# Altium schematic symbol library SOARSchematics.SchLib: 87 symbols (part 2 of 2)
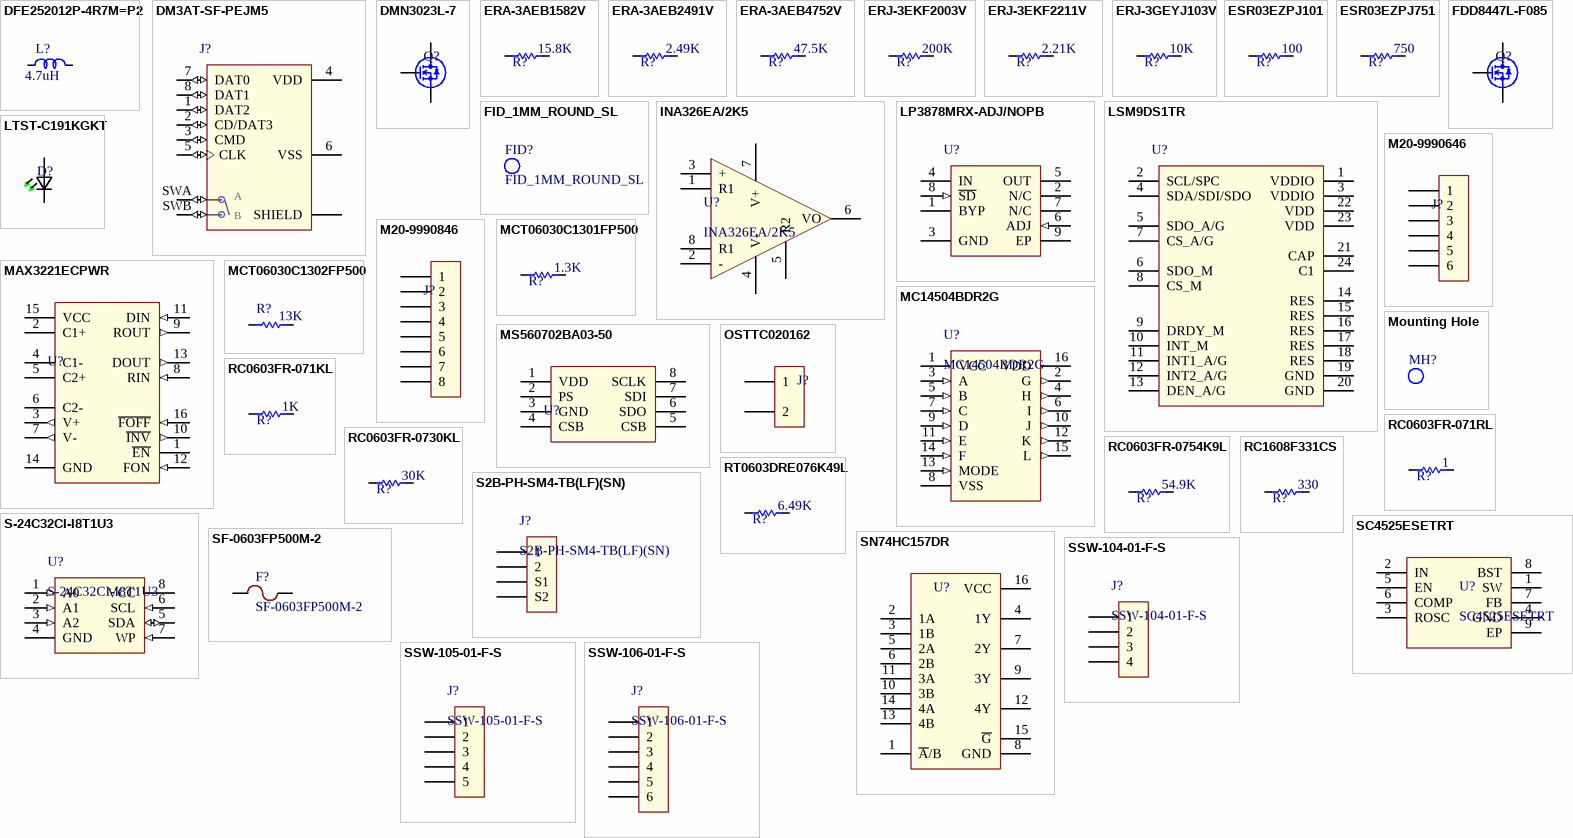
[diagram p3: symbols DFE252012P-4R7M=P2 to SSW-106-01-F-S]

## M20-9990646
designator J?  (value not drawn)
CONN HEADER VERT 6POS 2.54MM; Manufacturer: Harwin Inc.; Connector Type: Header, Cuttable; Header Type: Male Pin; Pitch-Mating: 0.100" (2.54mm); Number of Positions: 6; Number of Positions Loaded: All; Shrouding: Unshrouded; Contact Length - Mating: 0.240" (6.10mm); Contact Length - Post: 0.118" (3.00mm); Material Flammability Rating: UL94 V-0; Current Rating (Amps): 3A per Contact; Mated Stacking Heights: 10.04mm, 10.64mm, 11.04mm, 16.54mm; ComponentLink1Description: Datasheet; ComponentLink1URL: https://cdn.harwin.com/pdfs/M20-999.pdf; ComponentLink2Description: Component Specification; ComponentLink2URL: https://cdn.harwin.com/pdfs/C001XX_M20_Series_Connectors.pdf; ComponentLink3Description: Connectors Specification; ComponentLink3URL: https://cdn.harwin.com/pdfs/Harwin_PC_Connectors_M20.pdf; Supplier 1: Digi-Key; Supplier Part Number 1: 952-2270-ND; Number of Rows: 1; Mounting Type: Through Hole; Termination: Solder; Fastening Type: Push-Pull; Insulation Height: 0.100" (2.54mm); Contact Finish - Mating: Tin; Contact Shape: Square; Contact Finish - Post: Tin; Contact Material: Brass; Insulation Material: Polyamide (PA6T), Nylon 6T; Operating Temperature: -40°C ~ 105°C; Insulation Color: Black; Manufacturer Part Number: M20-9990646
footprint M20-9990646
pins: 1, 2, 3, 4, 5, 6

## M20-9990846
designator J?  (value not drawn)
CONN HEADER VERT 8POS 2.54MM; Manufacturer: Harwin Inc.; Connector Type: Header, Cuttable; Pitch-Mating: 0.100" (2.54mm); Number of Positions: 8; Number of Positions Loaded: All; Shrouding: Unshrouded; Contact Length - Mating: 0.240" (6.10mm); Contact Length - Post: 0.118" (3.00mm); Material Flammability Rating: UL94 V-0; Current Rating (Amps): 3A per Contact; Mated Stacking Heights: 10.04mm, 10.64mm, 11.04mm, 16.54mm; ComponentLink1Description: Datasheet; ComponentLink1URL: https://cdn.harwin.com/pdfs/M20-999.pdf; ComponentLink2Description: Component Specification; ComponentLink2URL: https://cdn.harwin.com/pdfs/C001XX_M20_Series_Connectors.pdf; ComponentLink3Description: Connectors Specification; ComponentLink3URL: https://cdn.harwin.com/pdfs/Harwin_PC_Connectors_M20.pdf; Contact Type: Male Pin; Number of Rows: 1; Mounting Type: Through Hole; Termination: Solder; Fastening Type: Push-Pull; Insulation Height: 0.100" (2.54mm); Contact Finish - Mating: Tin; Contact Shape: Square; Contact Finish - Post: Tin; Contact Material: Brass; Insulation Material: Polyamide (PA6T), Nylon 6T; Operating Temperature: -40°C ~ 105°C; Insulation Color: Black; Manufacturer Part Number: M20-9990846; Supplier 1: Digi-Key; Supplier Part Number 1: 952-2271-ND
footprint M20-9990846
pins: 1, 2, 3, 4, 5, 6, 7, 8

## MAX3221ECPWR
designator U?  (value not drawn)
IC TRANSCEIVER FULL 1/1 16TSSOP; Manufacturer: Texas Instruments; Protocol: RS232; Receiver Hysteresis: 500mV; Data Rate: 250kbps; Voltage - Supply: 3V ~ 5.5V; ComponentLink1Description: Datasheet; ComponentLink1URL: http://www.ti.com/lit/ds/symlink/max3221e.pdf; Supplier 1: Digi-Key; Supplier Part Number 1: 296-19825-2-ND; Manufacturer Part Number: MAX3221ECPWR; Type: Transceiver; Number of Drivers/Receivers: 1/1; Duplex: Full; Operating Temperature: 0°C ~ 70°C; Mounting Type: Surface Mount; Package / Case: 16-TSSOP (0.173", 4.40mm Width); Supplier Device Package: 16-TSSOP; Base Part Number: MAX3221E
footprint SOP65P780X200-16N (SOP, 16-Leads, Body 6.20x5.30mm, Pitch 0.65mm, IPC Medium Density)
pins: 1 ~{EN}, 2 C1+, 3 V+ (out), 4 C1-, 5 C2+, 6 C2-, 7 V- (out), 8 RIN (in), 9 ROUT (out), 10 ~{INV} (out), 11 DIN (in), 12 FON (in), 13 DOUT (out), 14 GND, 15 VCC, 16 ~{FOFF} (in)

## MC14504BDR2G
designator U?
IC TRNSLTR UNIDIRECTIONAL 16SOIC; Manufacturer: ON Semiconductor; Manufacturer Part Number: MC14504BDR2G; ComponentLink1Description: Datasheet; ComponentLink1URL: https://www.onsemi.com/pub/Collateral/MC14504B-D.PDF; Supplier 1: Digi-Key; Supplier Part Number 1: MC14504BDR2GOSCT-ND
footprint MC14504BDR2G (SOIC, 16-Leads, Body 9.90x3.90mm, Pitch 1.27mm, IPC Medium Density)
pins: 1 VCC (power), 2 G (out), 3 A (in), 4 H (out), 5 B (in), 6 I (out), 7 C (in), 8 VSS (power), 9 D (in), 10 J (out), 11 E (in), 12 K (out), 13 MODE (in), 14 F (in), 15 L (out), 16 VDD (power)

## MCT06030C1301FP500
designator R?  Resistance: 1.3K  (hidden comment: MCT06030C1301FP500)
RES SMD 1.3K OHM 1% 1/8W 0603; Manufacturer: Vishay Beyschlag; Temperature Coefficient: ±50ppm/°C; Power  (W): 1/8W; Package: 0603 (1608 Metric); Tolerance: ±1%; Operating Temperature: -55°C ~ 155°C; Composition: Thin Film; Manufacturer Part Number: MCT06030C1301FP500; ComponentLink1Description: Datasheet; ComponentLink1URL: http://www.vishay.com/docs/28705/mcx0x0xpro.pdf; Supplier 1: Digi-Key; Supplier Part Number 1: 749-1605-1-ND
footprint 0603[1608]
pins: 1, 2
1 alternate drawing of the same symbol

## MCT06030C1302FP500
designator R?  Resistance: 13K  (hidden comment: MCT06030C1302FP500)
RES SMD 13K OHM 1% 1/8W 0603; Manufacturer: Vishay Beyschlag; Power (Watts): 0.125W, 1/8W; Temperature Coefficient: ±50ppm/°C; ComponentLink1Description: Datasheet; ComponentLink1URL: http://www.vishay.com/docs/28705/mcx0x0xpro.pdf; Manufacturer Part Number: MCT06030C1302FP500; Tolerance: ±1%; Composition: Thin Film; Features: Anti-Sulfur; Operating Temperature: -55°C ~ 155°C; Package / Case: 0603 (1608 Metric); Supplier Device Package: 0603; Size / Dimension: 0.061" L x 0.033" W (1.55mm x 0.85mm); Height - Seated (Max): 0.022" (0.55mm); Number of Terminations: 2; Supplier 1: Digi-Key; Supplier Part Number 1: 749-1606-1-ND
footprint 0603[1608]
pins: 1, 2

## Mounting Hole
designator MH?  (value not drawn)  (no BOM)
#4 Screw, 0.116in Diameter
footprint MOUNT-HOLE (#4, 0.116in)

## MS560702BA03-50
designator U?  (value not drawn)
BAROMETRIC PRESSURE SENSOR; Manufacturer: TE Connectivity Measurement Specialties; Pressure Type: Absolute; Operating Pressure: 0.15PSI ~ 17.4PSI (1kPa ~ 120kPa); Output Type: I²C, SPI; Output: 24 b; Accuracy: ±0.022PSI (±0.15kPa); Voltage - Supply: 1.8V ~ 3.6V; Maximum Pressure: 87.02PSI (600kPa); Digi-Key Part Number: 223-1198-1-ND; Manufacturer Part Number: MS560702BA03-50; Termination Style: SMD (SMT) Tab; Operating Temperature: -40°C ~ 85°C; Package / Case: 8-SMD; ComponentLink1Description: Datasheet; ComponentLink1URL: https://www.te.com/commerce/DocumentDelivery/DDEController?Action=srchrtrv&DocNm=MS5607-02BA03&DocType=Data+Sheet&DocLang=English; Supplier 1: Digi-Key; Supplier Part Number 1: 223-1198-1-ND
footprint MS560702BA03-50
pins: 1 VDD (power), 2 PS, 3 GND, 4 CSB, 5 CSB, 6 SDO, 7 SDI, 8 SCLK

## OSTTC020162
designator J?  (value not drawn)
TERM BLK 2POS SIDE ENTRY 5MM PCB; Manufacturer: On Shore Technology Inc.; Clamp Material-Plating: Steel, Stainless; Screw Material-Plating: Steel - Zinc Plated; Number of Levels: 1; Positions Per Level: 2; Pitch: 0.197" (5.00mm); Mating Orientation: Horizontal with Board; Current: 15A; Voltage: 300V; Wire Gauge: 14-22 AWG; Wire Termination: Screw - Leaf Spring, Wire Guard; Torque-Screw: 0.3 Nm (2.6 Lb-In); Screw Thread: M2.6; ComponentLink1Description: Datasheet; ComponentLink1URL: http://www.on-shore.com/wp-content/uploads/OSTTCXX0162.pdf; Contact Material-Plating: Tin Plated; Manufacturer Part Number: OSTTC020162; Mounting Type: Through Hole; Features: Interlocking (Side); Supplier 1: Digi-Key; Supplier Part Number 1: ED2600-ND; Operating Temperature: -30°C ~ 105°C; Housing Material: Thermoplastic
footprint OSTTC020162
pins: 1, 2

## RC0603FR-071KL
designator R?  Resistance: 1K  (hidden comment: RC0603FR-071KL)
RES SMD 1K OHM 1% 1/10W 0603; Manufacturer: Yageo; Power  (W): 0.1W; Temperature Coefficient: ±100ppm/°C; Package: 0603 (1608 Metric); Tolerance: ±1%; Operating Temperature: -55°C ~ 155°C; Composition: Thick Film; Manufacturer Part Number: RC0603FR-071KL; ComponentLink1Description: Datasheet; ComponentLink1URL: https://www.yageo.com/upload/media/product/productsearch/datasheet/rchip/PYu-RC_Group_51_RoHS_L_10.pdf; Supplier 1: Digi-Key; Supplier Part Number 1: 311-30.0KHRCT-ND
footprint 0603[1608]
pins: 1, 2
1 alternate drawing of the same symbol

## RC0603FR-071RL
designator R?  Resistance: 1  (hidden comment: RC0603FR-071RL)
RES SMD 1 OHM 1% 1/10W 0603; Manufacturer: Yageo; Power  (W): 0.1W; Temperature Coefficient: ±200ppm/°C; Package: 0603 (1608 Metric); Tolerance: ±1%; Operating Temperature: -55°C ~ 155°C; Composition: Thick Film; Manufacturer Part Number: RC0603FR-071RL; ComponentLink1Description: Datasheet; ComponentLink1URL: https://www.yageo.com/upload/media/product/productsearch/datasheet/rchip/PYu-RC_Group_51_RoHS_L_10.pdf; Supplier 1: Digi-Key; Supplier Part Number 1: 311-1.00HRCT-ND
footprint 0603[1608]
pins: 1, 2
1 alternate drawing of the same symbol

## RC0603FR-0730KL
designator R?  Resistance: 30K  (hidden comment: RC0603FR-0730KL)
RES SMD 30K OHM 1% 1/10W 0603; Manufacturer: Yageo; Power  (W): 0.1W; Temperature Coefficient: ±100ppm/°C; Package: 0603 (1608 Metric); Tolerance: ±1%; Operating Temperature: -55°C ~ 155°C; Composition: Thick Film; Manufacturer Part Number: RC0603FR-0730KL; ComponentLink1Description: Datasheet; ComponentLink1URL: https://www.yageo.com/upload/media/product/productsearch/datasheet/rchip/PYu-RC_Group_51_RoHS_L_10.pdf; Supplier 1: Digi-Key; Supplier Part Number 1: 311-30.0KHRCT-ND
footprint 0603[1608]
pins: 1, 2
1 alternate drawing of the same symbol

## RC0603FR-0754K9L
designator R?  Resistance: 54.9K  (hidden comment: RC0603FR-0754K9L)
RES SMD 54.9K OHM 1% 1/10W 0603; Manufacturer: Yageo; Power  (W): 0.1W; Temperature Coefficient: ±100ppm/°C; Package: 0603 (1608 Metric); Tolerance: ±1%; Operating Temperature: -55°C ~ 155°C; Composition: Thick Film; Manufacturer Part Number: RC0603FR-0754K9L; ComponentLink1Description: Datasheet; ComponentLink1URL: https://www.yageo.com/upload/media/product/productsearch/datasheet/rchip/PYu-RC_Group_51_RoHS_L_10.pdf; Supplier 1: Digi-Key; Supplier Part Number 1: 311-54.9KHRDKR-ND
footprint 0603[1608]
pins: 1, 2
1 alternate drawing of the same symbol

## RC1608F331CS
designator R?  Resistance: 330  (hidden comment: RC1608F331CS)
RES SMD 330 OHM 1% 1/10W 0603; Manufacturer: Samsung Electro-Mechanics; Power  (W): 0.1W; Temperature Coefficient: ±100ppm/°C; Package: 0603 (1608 Metric); Tolerance: ±1%; Operating Temperature: -55°C ~ 155°C; Composition: Thick Film; Manufacturer Part Number: RC1608F331CS; ComponentLink1Description: Datasheet; ComponentLink1URL: http://www.samsungsem.com/kr/support/product-search/chip-resistor/__icsFiles/afieldfile/2019/01/21/RC_Spec_Sheet(1901).pdf; Supplier 1: Digi-Key; Supplier Part Number 1: 1276-4604-2-ND
footprint 0603[1608]
pins: 1, 2
1 alternate drawing of the same symbol

## RT0603DRE076K49L
designator R?  Resistance: 6.49K  (hidden comment: RT0603DRE076K49L)
RES SMD 6.49KOHM 0.5% 1/10W 0603; Manufacturer: Yageo; Power  (W): 0.1W; Temperature Coefficient: ±500ppm/°C; Package: 0603 (1608 Metric); Tolerance: ±0.5%; Operating Temperature: -55°C ~ 155°C; Composition: Thick Film; Manufacturer Part Number: RT0603DRE076K49L; ComponentLink1Description: Datasheet; ComponentLink1URL: https://4donline.ihs.com/images/VipMasterIC/IC/YAGO/YAGO-S-A0008510989/YAGO-S-A0008510989-1.pdf?hkey=52A5661711E402568146F3353EA87419; Supplier 1: Digi-Key; Supplier Part Number 1: 311-2658-1-ND
footprint 0603[1608]
pins: 1, 2
1 alternate drawing of the same symbol

## S2B-PH-SM4-TB(LF)(SN)
designator J?
CONN HEADER SMD R/A 2POS 2MM; Manufacturer: JST Sales America Inc.; Pitch - Mating: 0.079" (2.00mm); Number of Positions: 2; Number of Positions Loaded: All; Style: Board to Cable/Wire; Shrouding: Shrouded - 4 Wall; Contact Length - Mating: 0.130" (3.30mm); Material Flammability Rating: UL94 V-0; Current Rating (Amps): 2A; Voltage Rating: 100V; ComponentLink1Description: Datasheet; ComponentLink1URL: http://www.jst-mfg.com/product/pdf/eng/ePH.pdf; Manufacturer Part Number: S2B-PH-SM4-TB(LF)(SN); Connector Type: Header; Number of Rows: 1; Mounting Type: Surface Mount, Right Angle; Termination: Solder; Contact Type: Male Pin; Fastening Type: Detent Lock; Insulation Height: 0.217" (5.51mm); Contact Shape: Square; Contact Finish - Mating: Tin; Contact Finish - Post: Tin; Contact Material: Copper Alloy; Insulation Material: Polyamide (PA6T), Nylon 6T; Features: Solder Retention; Operating Temperature: -25°C ~ 85°C; Insulation Color: Natural; Supplier 1: Newark; Supplier Part Number 1: 38K8067
footprint S2B-PH-SM4-TB(LF)(SN) (CONN HEADER SMD R/A 2POS 2MM)
pins: 1 (power), 2 (power), S1 (power), S2 (power)

## S-24C32CI-I8T1U3
designator U?
IC EEPROM 32K I2C 400KHZ SNT8A; Manufacturer: ABLIC U.S.A. Inc.; Memory Type: Non-Volatile; Memory Size: 32Kb (4K x 8); Memory Interface: I²C; Write Cycle Time - Word, Page: 5ms; Voltage - Supply: 1.6V ~ 5.5V; Access Time: 900ns; Supplier 1: Digi-Key; Supplier Part Number 1: S-24C32CI-I8T1U3-ND; Manufacturer Product Number: S-24C32CI-I8T1U3; Memory Format: EEPROM; Operating Temperature: -40°C ~ 85°C (TA); Mounting Type: Surface Mount; Package / Case: 8-SMD, Flat Lead; Supplier Device Package: SNT-8A; Clock Frequency: 400kHz; ComponentLink1Description: Datasheet; ComponentLink1URL: https://www.ablic.com/en/doc/datasheet/serial_eeprom/S24C32C_64C_E.pdf
footprint SON50P220X50-8N (SON, 8-Leads, Body 1.97x2.23mm, Pitch 0.50mm, IPC Medium Density)
pins: 1 A0 (in), 2 A1 (in), 3 A2 (in), 4 GND, 5 SDA (io), 6 SCL (in), 7 WP (in), 8 VCC (power)

## SC4525ESETRT
designator U?
IC REG BUCK ADJUSTABLE 3A 8SOIC; Manufacturer: Semtech Corporation; ComponentLink1Description: Datasheet; ComponentLink1URL: https://semtech.my.salesforce.com/sfc/p/#E0000000JelG/a/2R0000001Nr2/6kOzpjdk.AJmLpgrGiFAWW58LpG5sa.kG4035Q65fV4; Manufacturer Part Number: SC4525ESETRT
footprint SOIC127P600X175_HS-9N (SOIC, 8-Leads, Body 4.90x3.90mm, Pitch 1.27mm, Thermal Pad 3.30x2.51mm, IPC Medium Density)
pins: 1 SW (power), 2 IN (power), 3 ROSC (power), 4 GND (power), 5 EN (power), 6 COMP (power), 7 FB (power), 8 BST (power), 9 EP (power)

## SF-0603FP500M-2
designator F?
FUSE BOARD MOUNT 5A 32VDC 0603; Manufacturer: Bourns Inc.; Response Time: Fast Blow; Breaking Capacity @ Rated Voltage: 35A; Melting I²t: 2.62; Approval Agency: UL; DC Cold Resistance: 0.015 Ohms; Fuse Type: Board Mount (Cartridge Style Excluded); Voltage Rating - DC: 32V; ComponentLink1Description: Datasheet; ComponentLink1URL: https://www.bourns.com/docs/Product-Datasheets/SF-0603FPxxxM.pdf; Manufacturer Part Number: SF-0603FP500M-2; Mounting Type: Surface Mount; Package / Case: 0603 (1608 Metric); Operating Temperature: -55°C ~ 150°C; Size / Dimension: 0.063" L x 0.031" W x 0.012" H (1.60mm x 0.80mm x 0.18mm); Current Rating (Amps): 5A; Supplier 1: Digi-Key; Supplier Part Number 1: SF-0603FP500M-2CT-ND
footprint SF-0603FP500M-2 (FUSE BOARD MOUNT 5A 32VDC 0603)
pins: 1, 2

## SN74HC157DR
designator U?  (value not drawn)
IC QUAD 2-1LN DATASEL/MUX 16SOIC; Manufacturer: Texas Instruments; Circuit: 4 x 2:1; Independent Circuits: 1; Current - Output High, Low: 7.8mA, 7.8mA; Voltage Supply Source: Single Supply; Voltage - Supply: 2V ~ 6V; ComponentLink1Description: Datasheet; ComponentLink1URL: http://www.ti.com/lit/ds/symlink/sn74hc157.pdf; Supplier 1: Digi-Key; Supplier Part Number 1: 296-14836-2-ND; Manufacturer Part Number: SN74HC157DR; Type: Multiplexer; Operating Temperature: -40°C ~ 85°C; Mounting Type: Surface Mount; Package / Case: 16-SOIC (0.154", 3.90mm Width); Supplier Device Package: 16-SOIC; Base Part Number: 74HC157
footprint SOIC127P600X175-16N (SOIC, 16-Leads, Body 9.90x3.90mm, Pitch 1.27mm, IPC Medium Density)
pins: 1 ~{A}/B, 2 1A, 3 1B, 4 1Y, 5 2A, 6 2B, 7 2Y, 8 GND, 9 3Y, 10 3B, 11 3A, 12 4Y, 13 4B, 14 4A, 15 ~{G}, 16 VCC

## SSW-104-01-F-S
designator J?
CONN RCPT 4POS FEMALE 0.1 GOLD PCB; Manufacturer: Samtec Inc.; Connector Type: Receptacle; Style: Board to Board or Cable; Number of Positions: 4; Pitch - Mating: 0.100" (2.54mm); Contact Length - Post: 0.104" (2.64mm); Material Flammability Rating: UL94 V-0; Current Rating (Amps): 5.7A per Contact; ComponentLink1Description: Drawing; ComponentLink1URL: http://suddendocs.samtec.com/prints/ssw-1xx-xx-xxx-x-xx-xxx-xx-mkt.pdf; ComponentLink2Description: Datasheet; ComponentLink2URL: http://suddendocs.samtec.com/catalog_english/ssw_th.pdf; Manufacturer Part Number: SSW-104-01-F-S; Contact Type: Forked; Number of Rows: 1; Mounting Type: Through Hole; Termination: Solder; Fastening Type: Push-Pull; Contact Finish - Mating: Gold; Contact Finish Thickness - Mating: 3.00µin (0.076µm); Insulation Color: Black; Insulation Height: 0.335" (8.51mm); Operating Temperature: -55°C ~ 125°C; Contact Finish - Post: Tin; Insulation Material: Liquid Crystal Polymer (LCP); Contact Shape: Square; Contact Material: Phosphor Bronze; Supplier 1: Digi-Key; Supplier Part Number 1: SAM10018-ND
footprint SSW-104-01-F-S (CONN RCPT 4POS 0.1 GOLD PCB)
pins: 1, 2, 3, 4

## SSW-105-01-F-S
designator J?
CONN RCPT 5POS FEMALE 0.1 GOLD PCB; Manufacturer: Samtec Inc.; Connector Type: Receptacle; Style: Board to Board or Cable; Number of Positions: 5; Pitch - Mating: 0.100" (2.54mm); Contact Length - Post: 0.104" (2.64mm); Material Flammability Rating: UL94 V-0; Current Rating (Amps): 5.7A per Contact; ComponentLink1Description: Drawing; ComponentLink1URL: http://suddendocs.samtec.com/prints/ssw-1xx-xx-xxx-x-xx-xxx-xx-mkt.pdf; ComponentLink2Description: Datasheet; ComponentLink2URL: http://suddendocs.samtec.com/catalog_english/ssw_th.pdf; Manufacturer Part Number: SSW-105-01-F-S; Contact Type: Forked; Number of Rows: 1; Mounting Type: Through Hole; Termination: Solder; Fastening Type: Push-Pull; Contact Finish - Mating: Gold; Contact Finish Thickness - Mating: 3.00µin (0.076µm); Insulation Color: Black; Insulation Height: 0.335" (8.51mm); Operating Temperature: -55°C ~ 125°C; Contact Finish - Post: Tin; Insulation Material: Liquid Crystal Polymer (LCP); Contact Shape: Square; Contact Material: Phosphor Bronze; Supplier 1: Digi-Key; Supplier Part Number 1: SAM10022-ND
footprint SSW-105-01-F-S (CONN RCPT 5POS 0.1 GOLD PCB)
pins: 1, 2, 3, 4, 5

## SSW-106-01-F-S
designator J?
CONN RCPT 6POS FEMALE 0.1 GOLD PCB; Manufacturer: Samtec Inc.; Connector Type: Receptacle; Style: Board to Board or Cable; Number of Positions: 6; Pitch - Mating: 0.100" (2.54mm); Contact Length - Post: 0.104" (2.64mm); Material Flammability Rating: UL94 V-0; Current Rating (Amps): 5.7A per Contact; ComponentLink1Description: Drawing; ComponentLink1URL: http://suddendocs.samtec.com/prints/ssw-1xx-xx-xxx-x-xx-xxx-xx-mkt.pdf; ComponentLink2Description: Datasheet; ComponentLink2URL: http://suddendocs.samtec.com/catalog_english/ssw_th.pdf; Manufacturer Part Number: SSW-106-01-F-S; Contact Type: Forked; Number of Rows: 1; Mounting Type: Through Hole; Termination: Solder; Fastening Type: Push-Pull; Contact Finish - Mating: Gold; Contact Finish Thickness - Mating: 3.00µin (0.076µm); Insulation Color: Black; Insulation Height: 0.335" (8.51mm); Operating Temperature: -55°C ~ 125°C; Contact Finish - Post: Tin; Insulation Material: Liquid Crystal Polymer (LCP); Contact Shape: Square; Contact Material: Phosphor Bronze; Supplier 1: Digi-Key; Supplier Part Number 1: SAM10025-ND
footprint SSW-106-01-F-S (CONN RCPT 6POS 0.1 GOLD PCB)
pins: 1, 2, 3, 4, 5, 6

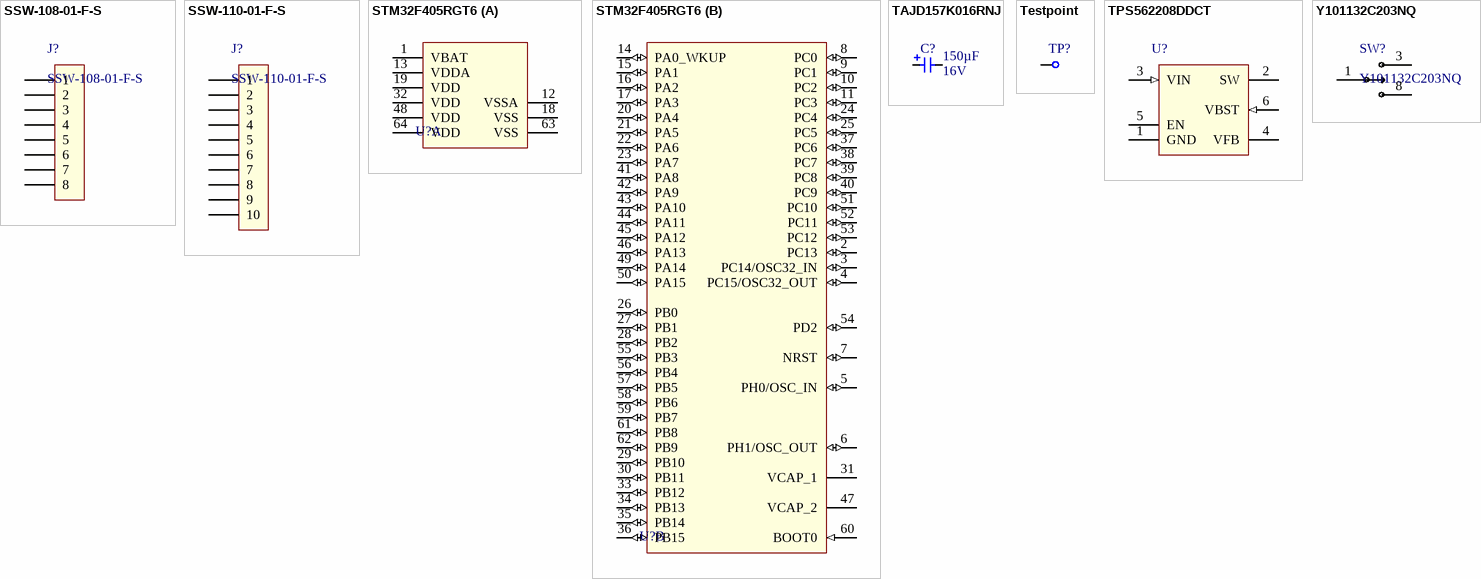
[diagram p2: symbols SSW-108-01-F-S to Y101132C203NQ]

## SSW-108-01-F-S
designator J?
CONN RCPT 8POS FEMALE 0.1 GOLD PCB; Manufacturer: Samtec Inc.; Connector Type: Receptacle; Style: Board to Board or Cable; Number of Positions: 8; Pitch - Mating: 0.100" (2.54mm); Contact Length - Post: 0.104" (2.64mm); Material Flammability Rating: UL94 V-0; Current Rating (Amps): 5.7A per Contact; ComponentLink1Description: Drawing; ComponentLink1URL: http://suddendocs.samtec.com/prints/ssw-1xx-xx-xxx-x-xx-xxx-xx-mkt.pdf; ComponentLink2Description: Datasheet; ComponentLink2URL: http://suddendocs.samtec.com/catalog_english/ssw_th.pdf; Manufacturer Part Number: SSW-108-01-F-S; Contact Type: Forked; Number of Rows: 1; Mounting Type: Through Hole; Termination: Solder; Fastening Type: Push-Pull; Contact Finish - Mating: Gold; Contact Finish Thickness - Mating: 3.00µin (0.076µm); Insulation Color: Black; Insulation Height: 0.335" (8.51mm); Operating Temperature: -55°C ~ 125°C; Contact Finish - Post: Tin; Insulation Material: Liquid Crystal Polymer (LCP); Contact Shape: Square; Contact Material: Phosphor Bronze; Supplier 1: Digi-Key; Supplier Part Number 1: SAM11943-ND
footprint SSW-108-01-F-S (CONN RCPT 8POS 0.1 GOLD PCB)
pins: 1, 2, 3, 4, 5, 6, 7, 8

## SSW-110-01-F-S
designator J?
CONN RCPT 10POS FEMALE 0.1 GOLD PCB; Manufacturer: Samtec Inc.; Connector Type: Receptacle; Style: Board to Board or Cable; Number of Positions: 10; Pitch - Mating: 0.100" (2.54mm); Contact Length - Post: 0.104" (2.64mm); Material Flammability Rating: UL94 V-0; Current Rating (Amps): 5.7A per Contact; ComponentLink1Description: Drawing; ComponentLink1URL: http://suddendocs.samtec.com/prints/ssw-1xx-xx-xxx-x-xx-xxx-xx-mkt.pdf; ComponentLink2Description: Recommended Layout; ComponentLink2URL: http://suddendocs.samtec.com/prints/ssw-s.pdf; Manufacturer Part Number: SSW-110-01-F-S; Contact Type: Forked; Number of Rows: 1; Mounting Type: Through Hole; Termination: Solder; Fastening Type: Push-Pull; Contact Finish - Mating: Gold; Contact Finish Thickness - Mating: 3.00µin (0.076µm); Insulation Color: Black; Insulation Height: 0.335" (8.51mm); Operating Temperature: -55°C ~ 125°C; Contact Finish - Post: Tin; Insulation Material: Liquid Crystal Polymer (LCP); Contact Shape: Square; Contact Material: Phosphor Bronze; ComponentLink3Description: Datasheet; ComponentLink3URL: http://suddendocs.samtec.com/catalog_english/ssq_th.pdf; Supplier 1: Digi-Key; Supplier Part Number 1: SAM10029-ND
footprint SSW-110-01-F-S (CONN RCPT 10POS 0.1 GOLD PCB)
pins: 1, 2, 3, 4, 5, 6, 7, 8, 9, 10

## STM32F405RGT6
designator U?  (value not drawn)
IC MCU 32BIT 1MB FLASH 64LQFP; Manufacturer: STMicroelectronics; Core Processor: ARM® Cortex®-M4; Core Size: 32-Bit; Speed: 168MHz; Connectivity: CANbus, I²C, IrDA, LINbus, SPI, UART/USART, USB OTG; Peripherals: Brown-out Detect/Reset, DMA, I²S, LCD, POR, PWM, WDT; Number of I/O: 51; Program Memory Size: 1MB (1M x 8); RAM Size: 192K x 8; Voltage - Supply (VDD): 1.8V ~ 3.6V; Data Converters: A/D 16x12b; D/A 2x12b; Oscillator Type: Internal; ComponentLink1Description: Datasheet; ComponentLink1URL: https://www.st.com/content/ccc/resource/technical/document/datasheet/ef/92/76/6d/bb/c2/4f/f7/DM00037051.pdf/files/DM00037051.pdf/jcr:content/translations/en.DM00037051.pdf; Program Memory Type: FLASH; Manufacturer Part Number: STM32F405RGT6; Operating Temperature: -40°C ~ 85°C (TA); Mounting Type: Surface Mount; Package / Case: 64-LQFP; Supplier 1: Digi-Key; Supplier Part Number 1: 497-11767-ND
footprint TSQFP50P1200X1200X160-64N (TSQFP, 64-Leads, Body 10.00x10.00mm, Pitch 0.50mm, IPC Medium Density)
part A pins: 1 VBAT (power), 12 VSSA (power), 13 VDDA (power), 18 VSS (power), 19 VDD (power), 32 VDD (power), 48 VDD (power), 63 VSS (power), 64 VDD (power)
part B pins: 2 PC13 (io), 3 PC14/OSC32_IN (io), 4 PC15/OSC32_OUT (io), 5 PH0/OSC_IN (io), 6 PH1/OSC_OUT (io), 7 NRST (io), 8 PC0 (io), 9 PC1 (io), 10 PC2 (io), 11 PC3 (io), 14 PA0_WKUP (io), 15 PA1 (io), 16 PA2 (io), 17 PA3 (io), 20 PA4 (io), 21 PA5 (io), 22 PA6 (io), 23 PA7 (io), 24 PC4 (io), 25 PC5 (io), 26 PB0 (io), 27 PB1 (io), 28 PB2 (io), 29 PB10 (io), 30 PB11 (io), 31 VCAP_1 (power), 33 PB12 (io), 34 PB13 (io), 35 PB14 (io), 36 PB15 (io), 37 PC6 (io), 38 PC7 (io), 39 PC8 (io), 40 PC9 (io), 41 PA8 (io), 42 PA9 (io), 43 PA10 (io), 44 PA11 (io), 45 PA12 (io), 46 PA13 (io), 47 VCAP_2 (power), 49 PA14 (io), 50 PA15 (io), 51 PC10 (io), 52 PC11 (io), 53 PC12 (io), 54 PD2 (io), 55 PB3 (io), 56 PB4 (io), 57 PB5 (io), 58 PB6 (io), 59 PB7 (io), 60 BOOT0 (in), 61 PB8 (io), 62 PB9 (io)

## TAJD157K016RNJ
designator C?  Voltage - Rated: 16V  Capacitance: 150µF  (hidden comment: TAJD157K016RNJ)
CAP TANT 150UF 10% 16V 2917; Manufacturer: AVX Corporation; Manufacturer Size Code: D; Type: Molded; ESR: 900mOhm; Tolerance: ±10%; Operating Temperature: -55°C ~ 125°C; Mounting Type: Surface Mount; Package / Case: 2917 (7343 Metric); Manufacturer Part Number: TAJD157K016RNJ; Size / Dimension: 0.287" L x 0.169" W (7.30mm x 4.30mm); Height - Seated (Max): 0.122" (3.10mm); ComponentLink1Description: Datasheet; ComponentLink1URL: http://datasheets.avx.com/TAJ.pdf; Supplier 1: Digi-Key; Supplier Part Number 1: 478-2356-1-ND
footprint TAJD157K016RNJ (Tantalum Cap)
pins: 1, 2

## Testpoint
designator TP?  (value not drawn)  (no BOM)
TESTPOINT 0.7MMD Hole, 1.2MMW, 1.2MML
footprint Testpoint (0.7MMD, 1.2MMW, 1.2MML)
pins: 1 (power)

## TPS562208DDCT
designator U?  (value not drawn)
IC REG BUCK ADJ 2A TSOT23-6; Manufacturer: Texas Instruments; Function: Step-Down; Output Configuration: Positive; Output Type: Adjustable; Number of Outputs: 1; Voltage - Input (Min): 4.5V; Voltage - Input (Max): 17V; Voltage - Output (Min/Fixed): 0.768V; Frequency - Switching: 580kHz; Synchronous Rectifier: Yes; Supplier 1: Digi-Key; Supplier Part Number 1: 296-43806-1-ND; Series: D-CAP2™, Eco-Mode™; Packaging: Cut Tape (CT); Topology: Buck; Voltage - Output (Max): 17V; Current - Output: 2A; Operating Temperature: -40°C ~ 125°C (TJ); Mounting Type: Surface Mount; ComponentLink1Description: Datasheet; ComponentLink1URL: http://www.ti.com/general/docs/suppproductinfo.tsp?distId=10&gotoUrl=http%3A%2F%2Fwww.ti.com%2Flit%2Fgpn%2Ftps562208
footprint TPS562208DDCT (IC REG BUCK ADJ 2A TSOT23-6)
pins: 1 GND, 2 SW, 3 VIN (in), 4 VFB "Converter Feedback Input", 5 EN, 6 VBST (in)

## Y101132C203NQ
designator SW?
SWITCH KEYLOCK 2POS SPDT 4A 125V; Manufacturer: C&K; Number of Positions: 2; Switch Function: On-On; Contact Timing: Not Specified; Current Rating (Amps): 4A (AC/DC); Angle of Throw: 90°; Key Removable Positions: 1 only; Actuator Type: Flat Key; Voltage Rating - DC: 28V; Electrical Life: 10,000 Cycles; ComponentLink1Description: Datasheet; ComponentLink1URL: https://dznh3ojzb2azq.cloudfront.net/products/Switchlock/Y/documents/datasheet.pdf; Supplier 1: Digi-Key; Supplier Part Number 1: CKN11517-ND; Manufacturer Part Number: Y101132C203NQ; Circuit: SPDT; Voltage Rating - AC: 125V; Contact Material: Copper; Contact Finish: Silver; Mounting Type: Panel Mount; Depth Behind Flange: 28.83mm; Panel Cutout Dimensions: Circular - 19.30mm Dia; Termination Style: Solder Lug
footprint Y101132C203NQ (SWITCH KEYLOCK 2POS SPDT 4A 125V)
pins: 1 (power), 3 (power), 8 (power)